# Altium schematic symbol library 629722000214.SchLib: 1 symbol
Pins are listed as number, name and electrical type; pins without a type are passive.

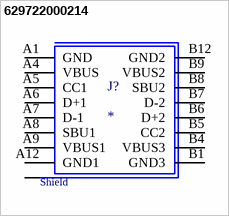
[diagram p0: symbol 629722000214]

## 629722000214
designator J?
MF: {'manufacturer': u'W\xfcrth Elektronik'}; MP: 629722000214; Package: None; Price: None; Value: *; Availability: Unavailable
footprint 629722000214
pins: A1 GND, A4 VBUS, A5 CC1, A6 D+1, A7 D-1, A8 SBU1, A9 VBUS1, A12 GND1, B1 GND3, B4 VBUS3, B5 CC2, B6 D+2, B7 D-2, B8 SBU2, B9 VBUS2, B12 GND2, S1 SHIELD, S2 SHIELD, S3 SHIELD, S4 SHIELD
text: Shield